# Altium schematic symbol library 2020-04-06_20-25-18.SchLib: 2 symbols
Pins are listed as number, name and electrical type; pins without a type are passive.

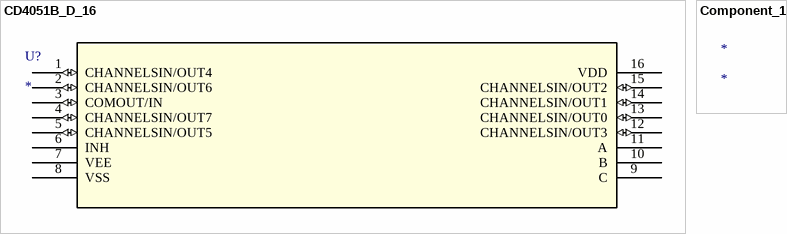
[diagram p0: symbols CD4051B_D_16 to Component_1]

## CD4051B_D_16
designator U?
Imported; Manufacturer: Texas Instruments; GENERIC_PART_NUMBER: CD4051B; INDUSTRY_STD_PKG_TYPE: SOIC; FAMILY_NAME: ANALOG SWITCH/MULTIPLEXER (greater than 5V); PIN_COUNT: 16; PACKAGE_DESIGNATOR: D; Datasheet_URL: http://www.ti.com/lit/gpn/CD4051B; Value: Value; Type: Type; RefDes: RefDes
footprint D16
pins: 1 CHANNELSIN/OUT4 (io), 2 CHANNELSIN/OUT6 (io), 3 COMOUT/IN (io), 4 CHANNELSIN/OUT7 (io), 5 CHANNELSIN/OUT5 (io), 6 INH, 7 VEE (power), 8 VSS (power), 9 C, 10 B, 11 A, 12 CHANNELSIN/OUT3 (io), 13 CHANNELSIN/OUT0 (io), 14 CHANNELSIN/OUT1 (io), 15 CHANNELSIN/OUT2 (io), 16 VDD (power)

## Component_1
designator *